# Altium footprint library RGB LED.PcbLib: 19 footprints (part 1 of 2)
Each footprint in its own frame and in the unit in brackets; x right, y up, seen from the top. Pads: shape width x height; smd on the part's side, far side on the other; paste and mask are expansions set on the pad; w line width, h text height; cw(c..) or ccw(c..) is an arc to the next point about the centre after c.
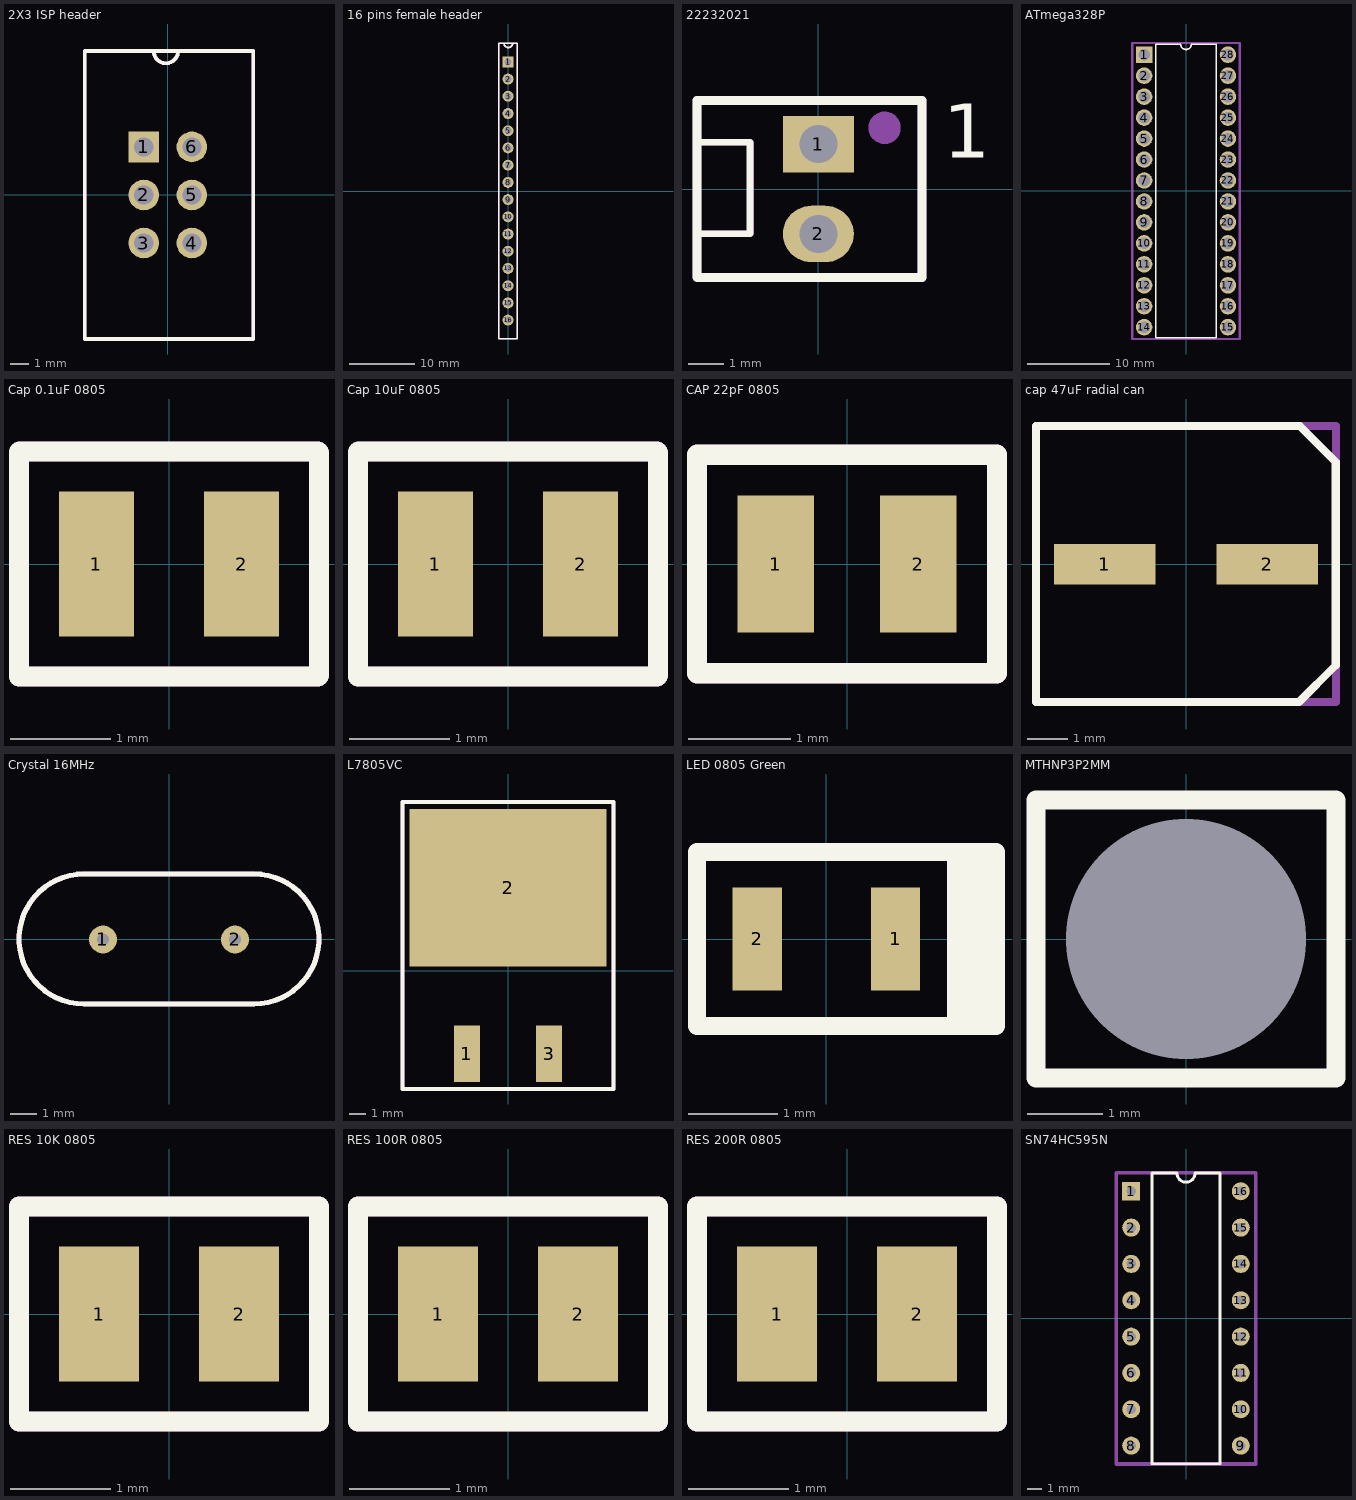
[diagram p0: the footprints below, top view; thin cyan lines are the x and y axes]

## 2X3 ISP header [mm]
pads (6):
  rect 1.62x1.62 hole 1.02: 1(-1.27,2.54)
  round 1.62 hole 1.02: 2(-1.27,0) 3(-1.27,-2.54) 4(1.27,-2.54) 5(1.27,0) 6(1.27,2.54)
Top Overlay:
  lines w0.2: -0.75,7.605 ccw(c-0.107,7.605) 0.535,7.605 ; 4.506,7.609 -4.393,7.609 -4.395,7.606 -4.395,-7.615 4.511,-7.615 4.511,7.603
Mechanical 29:
  lines w0.2: -0.75,7.605 ccw(c-0.107,7.605) 0.535,7.605 ; 4.506,7.609 -4.393,7.609 -4.395,7.606 -4.395,-7.615 4.511,-7.615 4.511,7.603
  text ".Designator" at -4.538,7.973 h0.7
3D body "2X3 ISP header.STEP": height 11.01, standoff 0.01, extent -2.6,-3.818 2.48,3.802

## 16 pins female header [mm]
pads (16):
  rect 1.67x1.67 hole 1.07: 1(0,19.8)
  round 1.67 hole 1.07: 2(0,17.16) 3(0,14.52) 4(0,11.88) 5(0,9.24) 6(0,6.6) 7(0,3.96) 8(0,1.32) 9(0,-1.32) 10(0,-3.96) 11(0,-6.6) 12(0,-9.24) 13(0,-11.88) 14(0,-14.52) 15(0,-17.16) 16(0,-19.8)
Top Overlay:
  lines w0.2: -0.617,22.643 ccw(c0.043,22.643) 0.703,22.643 ; -1.4,-22.69 1.4,-22.69 1.4,22.69 -1.4,22.69 -1.4,-22.69
Mechanical 29:
  lines w0.2: -0.617,22.643 ccw(c0.043,22.643) 0.703,22.643 ; -1.4,-22.69 1.4,-22.69 1.4,22.69 -1.4,22.69 -1.4,-22.69
  text ".Designator" at -1.512,23.019 h0.7

## 22232021 [mm]
pads (2):
  rect 2x1.6 hole 1.07 mask+0.102: 1(0,1.27)
  oval 2x1.6 hole 1.07 mask+0.102: 2(0,-1.27)
Top Overlay:
  lines w0.2: -3.43,-1.27 -1.93,-1.256 -1.93,1.316 -3.43,1.33
  lines w0.254: -3.43,-2.49 -3.423,-2.497 2.93,-2.497 2.93,2.497 -3.43,2.497 -3.43,-2.49
  text "1" at 3.524,0.884 h1.52
Mechanical 29:
  circle w0.508: c1.87,1.73 r0.203
  lines w0.2: -3.42,-1.27 -1.92,-1.256 -1.92,1.316 -3.42,1.33
  lines w0.254: -3.43,-2.497 2.93,-2.497 2.93,2.497 -3.43,2.497 -3.43,-2.497
  text ".Designator" at -3.33,3.363 h0.7
3D body "Connector header 1X2 vertical (22232021).stp": height 10.68, standoff -3.54, extent -3.099,-2.464 3.251,2.464

## ATmega328P [mm]
pads (28):
  rect 2x2 hole 1.397: 1(-5.08,16.51)
  round 2 hole 1.397: 2(-5.08,13.97) 3(-5.08,11.43) 4(-5.08,8.89) 5(-5.08,6.35) 6(-5.08,3.81) 7(-5.08,1.27) 8(-5.08,-1.27) 9(-5.08,-3.81) 10(-5.08,-6.35) 11(-5.08,-8.89) 12(-5.08,-11.43) 13(-5.08,-13.97) 14(-5.08,-16.51) 15(5.08,-16.51) 16(5.08,-13.97) 17(5.08,-11.43) 18(5.08,-8.89) 19(5.08,-6.35) 20(5.08,-3.81) 21(5.08,-1.27) 22(5.08,1.27) 23(5.08,3.81) 24(5.08,6.35) 25(5.08,8.89) 26(5.08,11.43) 27(5.08,13.97) 28(5.08,16.51)
Top Overlay:
  lines w0.2: 3.68,17.78 3.68,-17.78 -3.68,-17.78 -3.68,17.78 -0.635,17.78 ccw(c0,17.78) 0.635,17.78 3.68,17.78 ; 3.68,17.78 3.68,17.78
Mechanical 29:
  lines w0.254: -6.52,17.927 -6.52,-17.937 6.514,-17.937 6.514,17.908 ; -6.52,17.937 6.514,17.937
  text ".Designator" at -6.65,18.416 h0.7
3D body "atmega328p-pu.stp": height 3.31, standoff -3.99, extent -4.838,-17.199 4.838,17.401

## Cap 0.1uF 0805 [mm]
pads (2):
  rect 0.75x1.45 smd: 1(-0.725,0) 2(0.725,0)
Top Overlay:
  lines w0.2: -1.5,-1.125 1.489,-1.125 1.5,-1.114 1.5,1.117 1.492,1.125 -1.494,1.125 -1.5,1.119 -1.5,-1.125
Mechanical 29:
  lines w0.2: -1.5,-1.125 1.489,-1.125 1.5,-1.114 1.5,1.117 1.492,1.125 -1.494,1.125 -1.5,1.119 -1.5,-1.125
  text ".Designator" at -1.5,1.463 h0.7
3D body "cap 0.1uF 0805.step": height 0.26, standoff -0.99, extent -1,-0.725 1,0.725

## Cap 10uF 0805 [mm]
pads (2):
  rect 0.75x1.45 smd: 1(-0.725,0) 2(0.725,0)
Top Overlay:
  lines w0.2: -1.5,-1.125 1.489,-1.125 1.5,-1.114 1.5,1.117 1.492,1.125 -1.494,1.125 -1.5,1.119 -1.5,-1.125
Mechanical 29:
  lines w0.2: -1.5,-1.125 1.489,-1.125 1.5,-1.114 1.5,1.117 1.492,1.125 -1.494,1.125 -1.5,1.119 -1.5,-1.125
  text ".Designator" at -1.5,1.463 h0.7
3D body "cap 10uF 0805 .step": height 1.46, standoff 0.01, extent -1.105,-0.764 1.105,0.76

## CAP 22pF 0805 [mm]
pads (2):
  rect 0.75x1.35 smd: 1(-0.7,0) 2(0.7,0)
Top Overlay:
  lines w0.2: -1.475,-1.075 -1.475,1.075 1.475,1.075 1.475,-1.075 -1.475,-1.075
Mechanical 29:
  lines w0.2: -1.475,-1.075 -1.475,1.075 1.475,1.075 1.475,-1.075 -1.475,-1.075
  text ".Designator" at -1.375,1.408 h0.7
3D body "cap 22pF 0805.step": height 1.45, standoff 0, extent -1.1,-0.724 1.1,0.724

## cap 47uF radial can [mm]
pads (2):
  rect 2.5x1 smd: 1(-2,0) 2(2,0)
Top Overlay:
  lines w0.2: -3.698,-3.4 -3.698,3.4 2.811,3.4 3.695,2.516 3.695,-2.496 2.791,-3.4 -3.698,-3.4
Mechanical 29:
  lines w0.2: -3.7,-3.398 3.7,-3.398 3.7,3.402 -3.7,3.402 -3.7,-3.398
  text ".Designator" at -3.781,3.623 h0.7
3D body "cap  47uF radial can smd.stp": height 5.81, standoff 0.01, extent -3.65,-3.3 3.65,3.3

## Crystal 16MHz [mm]
pads (2):
  round 1.075 hole 0.475: 1(-2.54,0) 2(2.54,0)
Top Overlay:
  lines w0.2: -3.27,-2.481 cw(c-3.27,0.019) -3.27,2.519 ; -3.259,-2.481 3.24,-2.481 ; -3.25,2.52 3.227,2.518 ; 3.27,-2.481 ccw(c3.27,0.019) 3.27,2.519
Mechanical 29:
  lines w0.2: -3.28,-2.485 3.219,-2.485 ; -3.271,2.516 3.207,2.514 ; -3.27,-2.481 cw(c-3.27,0.019) -3.27,2.519 ; 3.27,-2.481 ccw(c3.27,0.019) 3.27,2.519
  text ".Designator" at -4.446,3.147 h0.7
3D body "crystal 16MHz.STEP": height 3.51, standoff -5.49, extent -5.75,-2.5 5.75,2.5

## L7805VC [mm]
pads (3):
  rect 1.6x3.5 smd: 1(-2.54,-5.138) 3(2.54,-5.138)
  rect 12.2x9.75 smd: 2(0,5.138)
Top Overlay:
  lines w0.254: -6.529,-7.312 6.525,-7.312 6.525,10.442 -6.529,10.442 -6.529,-7.312
Mechanical 29:
  lines w0.254: -6.527,-7.314 6.527,-7.314 ; -6.527,-7.314 -6.527,10.44 ; -6.527,-7.314 6.527,-7.314 ; -6.527,-7.314 -6.527,10.44 ; -6.527,10.44 6.527,10.44 ; -6.527,10.44 6.527,10.44 ; 6.527,-7.314 6.527,10.44 ; 6.527,-7.314 6.527,10.44
  text ".Designator" at -6.596,11.119 h0.7
3D body "L7805CD2T-d2pak.step": height 4.61, standoff -0.22, extent -5.1,-6.712 5.1,8.712

## LED 0805 Green [mm]
pads (2):
  rect 0.55x1.15 smd: 1(0.775,0) 2(-0.775,0)
Top Overlay:
  rectangle: 1.48,-0.94 1.91,0.94
  lines w0.2: -1.45,-0.975 -1.45,0.975 ; -1.43,-0.975 1.9,-0.975 1.9,0.975 -1.43,0.975 ; 1.442,-0.975 1.45,-0.967 1.45,0.975 ; 1.47,-0.967 1.47,0.975
Mechanical 29:
  rectangle: 1.47,-0.93 1.9,0.95
  lines w0.2: -1.45,-0.97 -1.45,0.97 ; -1.43,-0.975 1.89,-0.975 1.89,0.975 -1.43,0.975 ; 1.46,-0.957 1.46,0.96
  text ".Designator" at -1.55,1.443 h0.7
3D body "LED 0805 Green (LTST-C171GKT).STEP": height 0.81, standoff 0.01, extent -1,-0.625 1,0.625

## MTHNP3P2MM [mm] "Mounting hole non plated"
pads (1):
  round 1 hole 3.2: ""(0,0)
Top Overlay:
  lines w0.254: 1.957,1.853 -2,1.853 -2,-1.852 1.982,-1.852 ; 2,-1.852 2,1.853

## RES 10K 0805 [mm]
pads (2):
  rect 0.8x1.35 smd: 1(-0.7,0) 2(0.7,0)
Top Overlay:
  lines w0.2: -1.5,-1.075 -1.5,1.075 1.5,1.075 1.5,-1.075 -1.5,-1.075
Mechanical 29:
  lines w0.2: -1.5,-1.075 -1.5,1.075 1.5,1.075 1.5,-1.075 -1.5,-1.075
  text ".Designator" at -1.63,1.308 h0.7
3D body "res koa speer electronics 0805.STEP": height 0.57, standoff -0.03, extent -1,-0.625 1,0.625

## RES 100R 0805 [mm]
pads (2):
  rect 0.8x1.35 smd: 1(-0.7,0) 2(0.7,0)
Top Overlay:
  lines w0.2: -1.5,-1.075 1.5,-1.075 1.5,1.075 -1.5,1.075 -1.5,-1.075
Mechanical 29:
  lines w0.2: -1.5,-1.075 1.5,-1.075 1.5,1.075 -1.5,1.075 -1.5,-1.075
  text ".Designator" at -1.63,1.308 h0.7
3D body "res koa speer electronics 0805.STEP": height 0.57, standoff -0.03, extent -1,-0.625 1,0.625

## RES 200R 0805 [mm]
pads (2):
  rect 0.8x1.35 smd: 1(-0.7,0) 2(0.7,0)
Top Overlay:
  lines w0.2: -1.5,-1.075 1.5,-1.075 1.5,1.075 -1.5,1.075 -1.5,-1.075
Mechanical 29:
  lines w0.2: -1.5,-1.075 1.5,-1.075 1.5,1.075 -1.5,1.075 -1.5,-1.075
  text ".Designator" at -1.63,1.308 h0.7
3D body "res koa speer electronics 0805.STEP": height 0.57, standoff -0.03, extent -1,-0.625 1,0.625

## SN74HC595N [mm]
pads (16):
  rect 1.26x1.26 hole 0.66: 1(-3.83,8.89)
  round 1.26 hole 0.66: 2(-3.83,6.35) 3(-3.83,3.81) 4(-3.83,1.27) 5(-3.83,-1.27) 6(-3.83,-3.81) 7(-3.83,-6.35) 8(-3.83,-8.89) 9(3.83,-8.89) 10(3.83,-6.35) 11(3.83,-3.81) 12(3.83,-1.27) 13(3.83,1.27) 14(3.83,3.81) 15(3.83,6.35) 16(3.83,8.89)
Top Overlay:
  lines w0.2: -2.365,-10.16 -2.365,10.16 -0.635,10.16 ccw(c0,10.16) 0.635,10.16 2.365,10.16 2.365,-10.16 -2.365,-10.16
Mechanical 29:
  lines w0.254: -4.887,-10.174 -4.887,10.187 4.887,10.187 4.887,-10.174 -4.887,-10.174
  text ".Designator" at -4.827,10.951 h0.7